# EAGLE library part MCP9808-TEMPSENSOR (library LITTLEBITS140915)
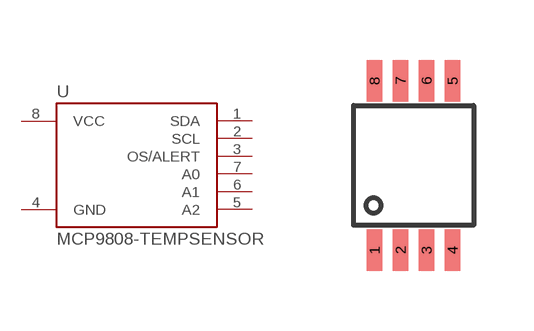
[diagram p72: symbol with the pads of MICRO8-ON; footprint MICRO8-ON]

Designator prefix -

## MCP9808-TEMPSENSOR  [MICRO8-ON]
1  SDA
2  SCL  in
3  OS/ALERT  out
4  GND  pwr
5  A2  in
6  A1  in
7  A0  in
8  VCC  pwr

## Footprint MICRO8-ON (pad centres in mm)
smd 0.38 x 1.04: 1 -0.975,-2.12; 2 -0.325,-2.12; 3 0.325,-2.12; 4 0.975,-2.12; 5 0.975,2.12; 6 0.325,2.12; 7 -0.325,2.12; 8 -0.975,2.12